# EAGLE library part LTC1540 (library linear)
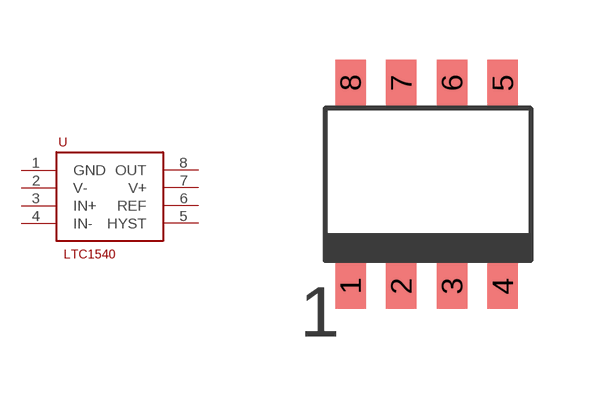
[diagram p0: symbol with the pads of S8; footprint S8]

Designator prefix -

## LTC1540  [S8]
1  GND
2  V-
3  IN+
4  IN-
5  HYST
6  REF
7  V+
8  OUT

## Footprint S8 (pad centres in mm)
smd 0.762 x 1.143: 1 -2.54,-2.54; 2 -1.27,-2.54; 3 0,-2.54; 4 1.27,-2.54; 5 1.27,2.54; 6 0,2.54; 7 -1.27,2.54; 8 -2.54,2.54